# EAGLE library part ARDUINO_UNO_REV3 (library 180118 Library by matsu)
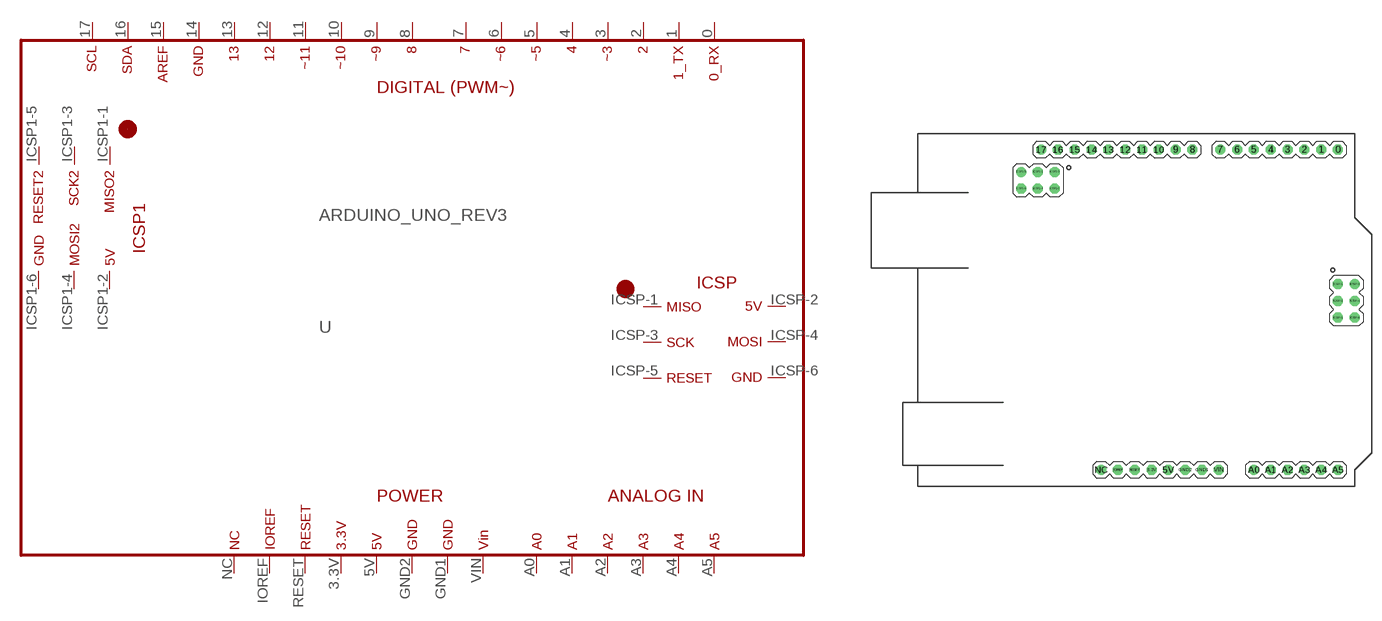
[diagram p46: symbol with the pads of ARDUINO_UNO_REV3; footprint ARDUINO_UNO_REV3]

Designator prefix -

## ARDUINO_UNO_REV3  [ARDUINO_UNO_REV3]
0  0_RX
1  1_TX
2  2
3  ~3
3.3V  3.3V
4  4
5  ~5
5V  5V
6  ~6
7  7
8  8
9  ~9
10  ~10
11  ~11
12  12
13  13
14  GND
15  AREF
16  SDA
17  SCL
A0  A0
A1  A1
A2  A2
A3  A3
A4  A4
A5  A5
GND1  GND1
GND2  GND2
ICSP1-1  MISO2
ICSP1-2  5V_ICSIP1
ICSP1-3  SCK2
ICSP1-4  MOSI2
ICSP1-5  RESET2
ICSP1-6  GND_ICSP1
ICSP-1  MISO
ICSP-2  5V_ICSP
ICSP-3  SCK
ICSP-4  MOSI
ICSP-5  RESET_1
ICSP-6  GND_ICSP
IOREF  IOREF
NC  NC  nc
RESET  RESET
VIN  VIN

## Footprint ARDUINO_UNO_REV3 (pad centres in mm)
drill 1 octagon: 0 30.48,25.54; 1 27.94,25.54; 2 25.4,25.54; 3 22.86,25.54; 3.3V 2.32,-22.86; 4 20.32,25.54; 5 17.78,25.54; 5V 4.86,-22.86; 6 15.24,25.54; 8 8.5,25.54; 9 5.96,25.54; 10 3.42,25.54; 11 0.88,25.54; 12 -1.66,25.54; 13 -4.2,25.54; 14 -6.74,25.54; 15 -9.28,25.54; 16 -11.82,25.54; A1 20.32,-22.86; A2 22.86,-22.86; A3 25.4,-22.86; A4 27.94,-22.86; A5 30.48,-22.86; GND1 9.94,-22.86; GND2 7.4,-22.86; ICSP1-1 -12.32,22.18; ICSP1-2 -12.32,19.64; ICSP1-3 -14.86,22.18; ICSP1-4 -14.86,19.64; ICSP1-6 -17.4,19.64; ICSP-1 30.48,5.22; ICSP-3 30.48,2.68; ICSP-4 33.02,2.68; ICSP-5 30.48,0.14; ICSP-6 33.02,0.14; IOREF -2.76,-22.86; RESET -0.22,-22.86; VIN 12.48,-22.86
drill 1: 7 12.7,25.54; 17 -14.36,25.54; A0 17.78,-22.86; ICSP1-5 -17.4,22.18; ICSP-2 33.02,5.22; NC -5.3,-22.86